# Altium footprint library ROV_Voltage_Switch.PcbLib: 32 footprints (part 1 of 2)
Each footprint in its own frame and in the unit in brackets; x right, y up, seen from the top. Pads: shape width x height; smd on the part's side, far side on the other; paste and mask are expansions set on the pad; w line width, h text height; cw(c..) or ccw(c..) is an arc to the next point about the centre after c.
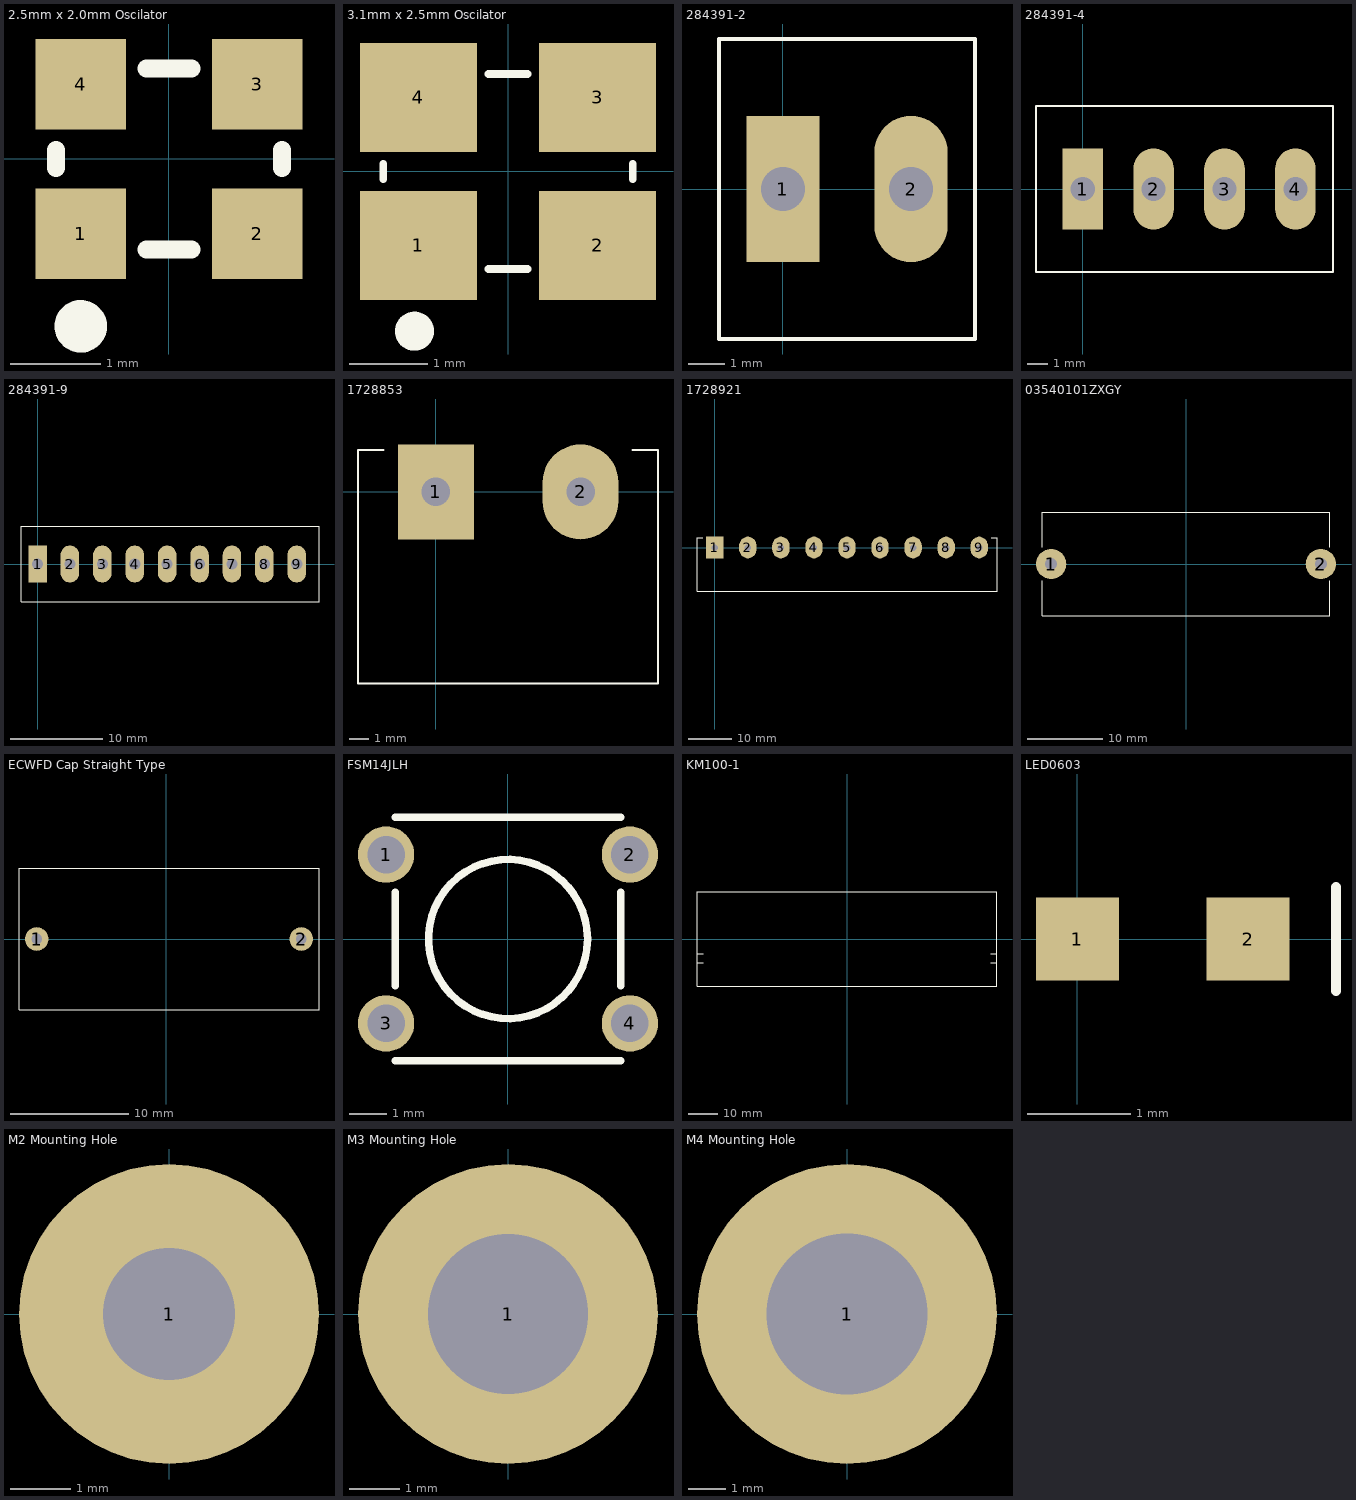
[diagram p0: the footprints below, top view; thin cyan lines are the x and y axes]

## 2.5mm x 2.0mm Oscilator [mm]
pads (4):
  rect 1x1 smd: 1(-0.975,-0.825) 2(0.975,-0.825) 3(0.975,0.825) 4(-0.975,0.825)
Top Overlay:
  circle w0.3: c-0.975,-1.85 r0.14
  lines w0.2: -1.25,-0.1 -1.25,0.1 ; -0.25,-1 0.25,-1 ; -0.25,1 0.25,1 ; 1.25,-0.1 1.25,0.1
3D body: height 0.6, standoff 0, extent -1.25,-1 1.25,1

## 3.1mm x 2.5mm Oscilator [mm]
pads (4):
  rect 1.5x1.4 smd: 1(-1.15,-0.95) 2(1.15,-0.95) 3(1.15,0.95) 4(-1.15,0.95)
Top Overlay:
  circle w0.3: c-1.2,-2.05 r0.1
  lines w0.1: -1.6,-0.1 -1.6,0.1 ; -0.25,-1.25 0.25,-1.25 ; -0.25,1.25 0.25,1.25 ; 1.6,-0.1 1.6,0.1
3D body: height 1, standoff 0, extent -1.6,-1.25 1.6,1.25

## 284391-2 [mm]
pads (2):
  rect 2x4 hole 1.2: 1(0,0)
  oval 2x4 hole 1.2: 2(3.5,0)
Top Overlay:
  lines w0.1: -1.75,-4.1 5.25,-4.1 5.25,4.1 -1.75,4.1 -1.75,-4.1
3D body "c-284391-2-b-3d.stp": height 12.61, standoff -3.49, extent -2.2,-4.1 5.3,4.1

## 284391-4 [mm]
pads (4):
  rect 2x4 hole 1.2: 1(0,0)
  oval 2x4 hole 1.2: 2(3.5,0) 3(7,0) 4(10.5,0)
Top Overlay:
  lines w0.1: -2.3,-4.1 -2.3,4.1 12.35,4.1 12.35,-4.1 -2.3,-4.1
3D body "c-284391-2-b-3d.stp": height 12.61, standoff -3.49, extent 4.8,-4.1 12.3,4.1
3D body "c-284391-2-b-3d.stp": height 12.61, standoff -3.49, extent -2.2,-4.1 5.3,4.1

## 284391-9 [mm]
pads (9):
  rect 2x4 hole 1.2: 1(0,0)
  oval 2x4 hole 1.2: 2(3.5,0) 3(7,0) 4(10.5,0) 5(14,0) 6(17.5,0) 7(21,0) 8(24.5,0) 9(28,0)
Top Overlay:
  lines w0.1: -1.75,-4.1 -1.75,4.1 30.4,4.1 30.4,-4.1 -1.75,-4.1
3D body "c-284391-9-b-3d.stp": height 12.61, standoff -3.49, extent -1.7,-4.1 30.3,4.1

## 1728853 [mm]
pads (2):
  rect 4x5 hole 1.5: 1(0,0)
  oval 4x5 hole 1.5: 2(7.62,0)
Top Overlay:
  lines w0.1: -2.75,2.2 -4.1,2.2 -4.1,-10.1 11.7,-10.1 11.7,2.2 10.35,2.2
3D body "pxc_1728853_02_GMSTBA-2-5-HC-2-G-7-62_3D.stp": height 8.61, standoff -3.49, extent -3.82,-10.1 11.42,1.902
3D body "pxc_1714278_03_GMSTB-2-5-HCV-2-ST-7-62_3D.stp": height 17.41, standoff 0.01, extent -3.74,-23.425 11.3,-2.475

## 1728921 [mm]
pads (9):
  rect 4x5 hole 1.5: 1(0,0)
  oval 4x5 hole 1.5: 2(7.62,0) 3(15.24,0) 4(22.86,0) 5(30.48,0) 6(38.1,0) 7(45.72,0) 8(53.34,0) 9(60.96,0)
Top Overlay:
  lines w0.1: -2.75,2.2 -4.1,2.2 -4.1,-10.1 65.06,-10.1 65.06,2.2 63.71,2.2
3D body "pxc_1728921_02_GMSTBA-2-5-HC-9-G-7-62_3D.stp": height 8.61, standoff -3.49, extent -3.79,-10.002 64.79,2

## 03540101ZXGY [mm] "3AB/3AG Fuse Holder"
pads (2):
  round 4 hole 1.6: 1(-17.8,0) 2(17.8,0)
Top Overlay:
  lines w0.1: -19,-2.2 -19,-6.8 19,-6.8 19,-2.2 ; -19,2.2 -19,6.8 19,6.8 19,2.2
3D body: height 14, standoff 0, extent -18.55,-6.4 18.55,6.4
3D body: height 1.6, standoff -1.8, extent -18.5,5.9 -18.5,5.9

## AL. Heatsink [mm]
3D body: height 3.2, standoff 0, extent 0,-0.025 1.4,2.525

## ECWFD Cap Straight Type [mm]
pads (2):
  round 2 hole 0.9: 1(-11,0) 2(11.5,0)
Top Overlay:
  lines w0.1: -12.5,-6 -12.5,6 13,6 13,-6 -12.5,-6
3D body: height 16, standoff 0, extent -12,-5.5 12.5,5.5

## FSM14JLH [mm] "Tactile Switches 6MM HIGH TEMP TACT SWITCH"
pads (4):
  round 1.5 hole 1: 1(-3.25,2.25) 2(3.25,2.25) 3(-3.25,-2.25) 4(3.25,-2.25)
Top Overlay:
  circle w0.2: c0,0 r2.121
  lines w0.2: -3,-3.25 3,-3.25 ; -3,-1.25 -3,1.25 ; -3,3.25 3,3.25 ; 3,-1.25 3,1.25
3D body "c-2-1825910-6-c-3d.stp": height 13, standoff -3.51, extent -3.9,-2.995 3.9,2.995

## KM100-1 [mm]
Top Overlay:
  lines w0.2: -51,-8 -48.8,-8 ; -51,-5 -48.8,-5 ; 48.8,-8 51,-8 ; 48.8,-5 51,-5 ; -51,-16 51,-16 51,16 -51,16 -51,-16
3D body "KM100-1.stp": height 45.01, standoff 0.01, extent -50,-15 50,15

## LED0603 [mm]
pads (2):
  rect 0.8x0.8 smd: 1(0,0) 2(1.65,0)
Top Overlay:
  lines w0.1: 2.5,-0.5 2.5,0.5

## M2 Mounting Hole [mm]
pads (1):
  round 5 hole 2.2: 1(0,0)

## M3 Mounting Hole [mm]
pads (1):
  round 6 hole 3.2: 1(0,0)

## M4 Mounting Hole [mm]
pads (1):
  round 8 hole 4.3: 1(0,0)